# Altium schematic symbol library LM7812.SchLib: 1 symbol
Pins are listed as number, name and electrical type; pins without a type are passive.

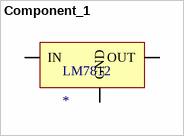
[diagram p0: symbol Component_1]

## Component_1
designator LM7812
pins: 1 IN, 2 GND, 3 OUT